# EAGLE library part FT2232H (library pixel)
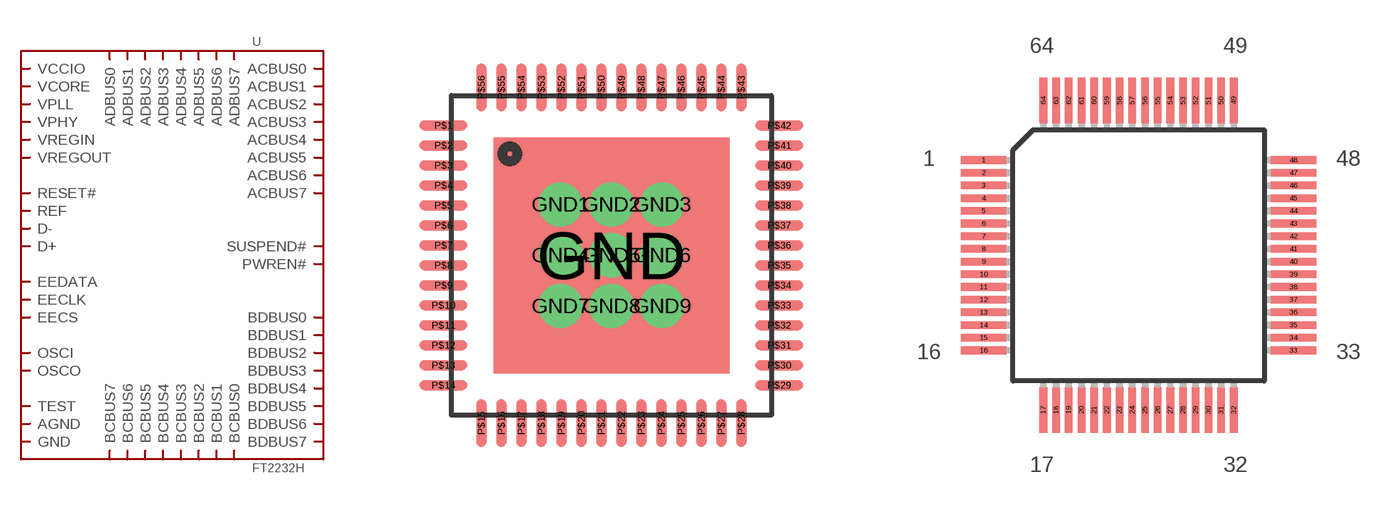
[diagram p35: symbol with the pads of VQFN56-LL; footprints VQFN56-LL, VQFP64-LL]

Designator prefix -

## FT2232HVQFN56-LL  [VQFN56-LL]
GND  GND
GND1  GND
GND2  GND
GND3  GND
GND4  GND
GND5  AGND
GND6  GND
GND7  GND
GND8  GND
GND9  GND
P$1  EECS
P$2  VCORE
P$3  OSCI
P$4  OSCO
P$5  VPHY
P$6  REF
P$7  D-
P$8  D+
P$9  VPLL
P$10  TEST
P$11  RESET#
P$12  ADBUS0
P$13  ADBUS1
P$14  ADBUS2
P$15  ADBUS3
P$16  VCCIO
P$17  ADBUS4
P$18  ADBUS5
P$19  ADBUS6
P$20  ADBUS7
P$21  GND
P$22  ACBUS0
P$23  ACBUS1
P$24  ACBUS2
P$25  ACBUS3
P$26  ACBUS4
P$27  ACBUS5
P$28  ACBUS6
P$29  ACBUS7
P$30  SUSPEND#
P$31  VCORE
P$32  BDBUS0
P$33  BDBUS1
P$34  BDBUS2
P$35  BDBUS3
P$36  VCCIO
P$37  BDBUS4
P$38  BDBUS5
P$39  BDBUS6
P$40  BDBUS7
P$41  GND
P$42  BCBUS0
P$43  VREGOUT
P$44  VREGIN
P$45  GND
P$46  BCBUS1
P$47  BCBUS2
P$48  BCBUS3
P$49  BCBUS4
P$50  VCCIO
P$51  BCBUS5
P$52  BCBUS6
P$53  BCBUS7
P$54  PWREN#
P$55  EEDATA
P$56  EECLK

## FT2232HVQFP64-LL  [VQFP64-LL]
1  GND
2  OSCI
3  OSCO
4  VPHY
5  GND
6  REF
7  D-
8  D+
9  VPLL
10  AGND
11  GND
12  VCORE
13  TEST
14  RESET#
15  GND
16  ADBUS0
17  ADBUS1
18  ADBUS2
19  ADBUS3
20  VCCIO
21  ADBUS4
22  ADBUS5
23  ADBUS6
24  ADBUS7
25  GND
26  ACBUS0
27  ACBUS1
28  ACBUS2
29  ACBUS3
30  ACBUS4
31  VCCIO
32  ACBUS5
33  ACBUS6
34  ACBUS7
35  GND
36  SUSPEND#
37  VCORE
38  BDBUS0
39  BDBUS1
40  BDBUS2
41  BDBUS3
42  VCCIO
43  BDBUS4
44  BDBUS5
45  BDBUS6
46  BDBUS7
47  GND
48  BCBUS0
49  VREGOUT
50  VREGIN
51  GND
52  BCBUS1
53  BCBUS2
54  BCBUS3
55  BCBUS4
56  VCCIO
57  BCBUS5
58  BCBUS6
59  BCBUS7
60  PWREN#
61  EEDATA
62  EECLK
63  EECS
64  VCORE

## FT2232HVQFP64  [VQFP64]
Pads as for VQFP64-LL

## Footprint VQFN56-LL (pad centres in mm)
smd 5.9 x 5.9: GND 0,0
drill 0.6: GND1 -1.27,1.27; GND2 0,1.27; GND3 1.27,1.27; GND4 -1.27,0; GND5 0,0; GND6 1.27,0; GND7 -1.27,-1.27; GND8 0,-1.27; GND9 1.27,-1.27
smd 1.2 x 0.25: P$1 -4.2,3.25; P$2 -4.2,2.75; P$3 -4.2,2.25; P$4 -4.2,1.75; P$5 -4.2,1.25; P$6 -4.2,0.75; P$7 -4.2,0.25; P$8 -4.2,-0.25; P$9 -4.2,-0.75; P$10 -4.2,-1.25; P$11 -4.2,-1.75; P$12 -4.2,-2.25; P$13 -4.2,-2.75; P$14 -4.2,-3.25; P$29 4.2,-3.25; P$30 4.2,-2.75; P$31 4.2,-2.25; P$32 4.2,-1.75; P$33 4.2,-1.25; P$34 4.2,-0.75; P$35 4.2,-0.25; P$36 4.2,0.25; P$37 4.2,0.75; P$38 4.2,1.25; P$39 4.2,1.75; P$40 4.2,2.25; P$41 4.2,2.75; P$42 4.2,3.25
smd 0.25 x 1.2: P$15 -3.25,-4.2; P$16 -2.75,-4.2; P$17 -2.25,-4.2; P$18 -1.75,-4.2; P$19 -1.25,-4.2; P$20 -0.75,-4.2; P$21 -0.25,-4.2; P$22 0.25,-4.2; P$23 0.75,-4.2; P$24 1.25,-4.2; P$25 1.75,-4.2; P$26 2.25,-4.2; P$27 2.75,-4.2; P$28 3.25,-4.2; P$43 3.25,4.2; P$44 2.75,4.2; P$45 2.25,4.2; P$46 1.75,4.2; P$47 1.25,4.2; P$48 0.75,4.2; P$49 0.25,4.2; P$50 -0.25,4.2; P$51 -0.75,4.2; P$52 -1.25,4.2; P$53 -1.75,4.2; P$54 -2.25,4.2; P$55 -2.75,4.2; P$56 -3.25,4.2

## Footprint VQFP64-LL (pad centres in mm)
64-lead VQVP Source. http://www.atmel.com/dyn/resources/prod_documents/doc4136.pdf
smd 1.8 x 0.3: 1 -6.1,3.75; 2 -6.1,3.25; 3 -6.1,2.75; 4 -6.1,2.25; 5 -6.1,1.75; 6 -6.1,1.25; 7 -6.1,0.75; 8 -6.1,0.25; 9 -6.1,-0.25; 10 -6.1,-0.75; 11 -6.1,-1.25; 12 -6.1,-1.75; 13 -6.1,-2.25; 14 -6.1,-2.75; 15 -6.1,-3.25; 16 -6.1,-3.75; 33 6.1,-3.75; 34 6.1,-3.25; 35 6.1,-2.75; 36 6.1,-2.25; 37 6.1,-1.75; 38 6.1,-1.25; 39 6.1,-0.75; 40 6.1,-0.25; 41 6.1,0.25; 42 6.1,0.75; 43 6.1,1.25; 44 6.1,1.75; 45 6.1,2.25; 46 6.1,2.75; 47 6.1,3.25; 48 6.1,3.75
smd 0.3 x 1.8: 17 -3.75,-6.1; 18 -3.25,-6.1; 19 -2.75,-6.1; 20 -2.25,-6.1; 21 -1.75,-6.1; 22 -1.25,-6.1; 23 -0.75,-6.1; 24 -0.25,-6.1; 25 0.25,-6.1; 26 0.75,-6.1; 27 1.25,-6.1; 28 1.75,-6.1; 29 2.25,-6.1; 30 2.75,-6.1; 31 3.25,-6.1; 32 3.75,-6.1; 49 3.75,6.1; 50 3.25,6.1; 51 2.75,6.1; 52 2.25,6.1; 53 1.75,6.1; 54 1.25,6.1; 55 0.75,6.1; 56 0.25,6.1; 57 -0.25,6.1; 58 -0.75,6.1; 59 -1.25,6.1; 60 -1.75,6.1; 61 -2.25,6.1; 62 -2.75,6.1; 63 -3.25,6.1; 64 -3.75,6.1

## Footprint VQFP64 (pad centres in mm)
64-lead VQVP Source. http://www.atmel.com/dyn/resources/prod_documents/doc4136.pdf
smd 1 x 0.3: 1 -5.7,3.75; 2 -5.7,3.25; 3 -5.7,2.75; 4 -5.7,2.25; 5 -5.7,1.75; 6 -5.7,1.25; 7 -5.7,0.75; 8 -5.7,0.25; 9 -5.7,-0.25; 10 -5.7,-0.75; 11 -5.7,-1.25; 12 -5.7,-1.75; 13 -5.7,-2.25; 14 -5.7,-2.75; 15 -5.7,-3.25; 16 -5.7,-3.75; 33 5.7,-3.75; 34 5.7,-3.25; 35 5.7,-2.75; 36 5.7,-2.25; 37 5.7,-1.75; 38 5.7,-1.25; 39 5.7,-0.75; 40 5.7,-0.25; 41 5.7,0.25; 42 5.7,0.75; 43 5.7,1.25; 44 5.7,1.75; 45 5.7,2.25; 46 5.7,2.75; 47 5.7,3.25; 48 5.7,3.75
smd 0.3 x 1: 17 -3.75,-5.7; 18 -3.25,-5.7; 19 -2.75,-5.7; 20 -2.25,-5.7; 21 -1.75,-5.7; 22 -1.25,-5.7; 23 -0.75,-5.7; 24 -0.25,-5.7; 25 0.25,-5.7; 26 0.75,-5.7; 27 1.25,-5.7; 28 1.75,-5.7; 29 2.25,-5.7; 30 2.75,-5.7; 31 3.25,-5.7; 32 3.75,-5.7; 49 3.75,5.7; 50 3.25,5.7; 51 2.75,5.7; 52 2.25,5.7; 53 1.75,5.7; 54 1.25,5.7; 55 0.75,5.7; 56 0.25,5.7; 57 -0.25,5.7; 58 -0.75,5.7; 59 -1.25,5.7; 60 -1.75,5.7; 61 -2.25,5.7; 62 -2.75,5.7; 63 -3.25,5.7; 64 -3.75,5.7